# EAGLE library part PINHD-2X20 (library adafruit)
PIN HEADER
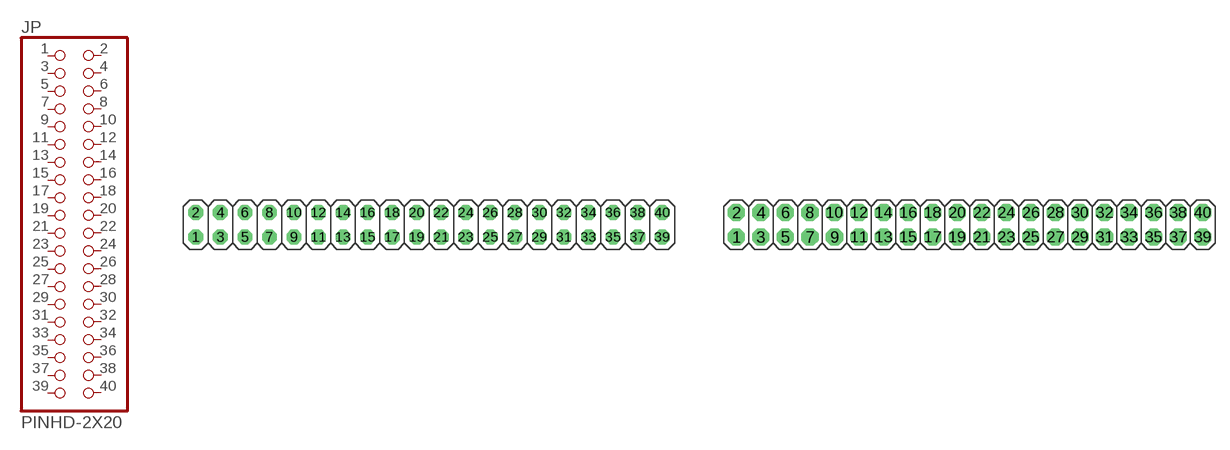
[diagram p56: symbol with the pads of 2X20; footprints 2X20, 2X20-BIG]

Designator prefix JP

## PINHD-2X20  [2X20]
1  1_3V3  pas
2  2_5V5  pas
3  3_BCM2_SDA  pas
4  4_5V5  pas
5  5_BCM3_SCL  pas
6  6_GND  pas
7  7_BCM4_GPCLK0  pas
8  8_BCM14_TXD  pas
9  9_GND  pas
10  10_BCM15_RXD  pas
11  11_BCM17  pas
12  12_BCM18_PWM0  pas
13  13_BCM27  pas
14  14_GND  pas
15  15_BCM22  pas
16  16_BCM23  pas
17  17_3V3  pas
18  18_BCM24  pas
19  19_BCM10_MOSI  pas
20  20_GND  pas
21  21_BCM9_MISO  pas
22  22_BCM25  pas
23  23_BCM11  pas
24  24_BCM8_CE0  pas
25  GND  pas
26  26_BCM7_CE1  pas
27  27_BCM0_ID_SD  pas
28  28_BCM1_ID_SC  pas
29  29_BCM5  pas
30  30_GND  pas
31  31_BCM6  pas
32  32_BCM12_PWM0  pas
33  33_BCM13_PWM1  pas
34  34_GND  pas
35  35_BCM19_MISO  pas
36  36_BCM16  pas
37  37_BCM26  pas
38  38_BCM20_MOSI  pas
39  39_GND  pas
40  40_BCM21_SCLK  pas

## PINHD-2X20-BIG  [2X20-BIG]
Pads as for 2X20

## Footprint 2X20 (pad centres in mm)
PIN HEADER
drill 1.016 octagon: 1 -24.13,-1.27; 2 -24.13,1.27; 3 -21.59,-1.27; 4 -21.59,1.27; 5 -19.05,-1.27; 6 -19.05,1.27; 7 -16.51,-1.27; 8 -16.51,1.27; 9 -13.97,-1.27; 10 -13.97,1.27; 11 -11.43,-1.27; 12 -11.43,1.27; 13 -8.89,-1.27; 14 -8.89,1.27; 15 -6.35,-1.27; 16 -6.35,1.27; 17 -3.81,-1.27; 18 -3.81,1.27; 19 -1.27,-1.27; 20 -1.27,1.27; 21 1.27,-1.27; 22 1.27,1.27; 23 3.81,-1.27; 24 3.81,1.27; 25 6.35,-1.27; 26 6.35,1.27; 27 8.89,-1.27; 28 8.89,1.27; 29 11.43,-1.27; 30 11.43,1.27; 31 13.97,-1.27; 32 13.97,1.27; 33 16.51,-1.27; 34 16.51,1.27; 35 19.05,-1.27; 36 19.05,1.27; 37 21.59,-1.27; 38 21.59,1.27; 39 24.13,-1.27; 40 24.13,1.27

## Footprint 2X20-BIG (pad centres in mm)
drill 1.016 pad 1.778 octagon: 1 -24.13,-1.27; 2 -24.13,1.27; 3 -21.59,-1.27; 4 -21.59,1.27; 5 -19.05,-1.27; 6 -19.05,1.27; 7 -16.51,-1.27; 8 -16.51,1.27; 9 -13.97,-1.27; 10 -13.97,1.27; 11 -11.43,-1.27; 12 -11.43,1.27; 13 -8.89,-1.27; 14 -8.89,1.27; 15 -6.35,-1.27; 16 -6.35,1.27; 17 -3.81,-1.27; 18 -3.81,1.27; 19 -1.27,-1.27; 20 -1.27,1.27; 21 1.27,-1.27; 22 1.27,1.27; 23 3.81,-1.27; 24 3.81,1.27; 25 6.35,-1.27; 26 6.35,1.27; 27 8.89,-1.27; 28 8.89,1.27; 29 11.43,-1.27; 30 11.43,1.27; 31 13.97,-1.27; 32 13.97,1.27; 33 16.51,-1.27; 34 16.51,1.27; 35 19.05,-1.27; 36 19.05,1.27; 37 21.59,-1.27; 38 21.59,1.27; 39 24.13,-1.27; 40 24.13,1.27